# Altium integrated library RC0603FR-072K2L.IntLib: 1 symbol
Pins are listed as number, name and electrical type; pins without a type are passive.

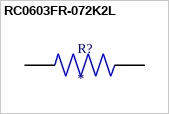
[diagram p0: symbol RC0603FR-072K2L]

## RC0603FR-072K2L
designator R?
2.2 kOhms Â±1% 0.1W, 1/10W Chip Resistor 0603 (1608 Metric) Moisture Resistant Thick Film; MF: Yageo; MP: RC0603FR-072K2L; SnapEDA_Link: https://www.snapeda.com/parts/RC0603FR-072K2L/Yageo/view-part/?ref=snap; Package: 0603 Yageo; Value: *; Check_prices: https://www.snapeda.com/parts/RC0603FR-072K2L/Yageo/view-part/?ref=eda
footprint RESC1607X60N
pins: 1, 2